# Altium footprint library CP2104.PcbLib: 2 footprints
Each footprint in its own frame and in the unit in brackets; x right, y up, seen from the top. Pads: shape width x height; smd on the part's side, far side on the other; paste and mask are expansions set on the pad; w line width, h text height; cw(c..) or ccw(c..) is an arc to the next point about the centre after c.
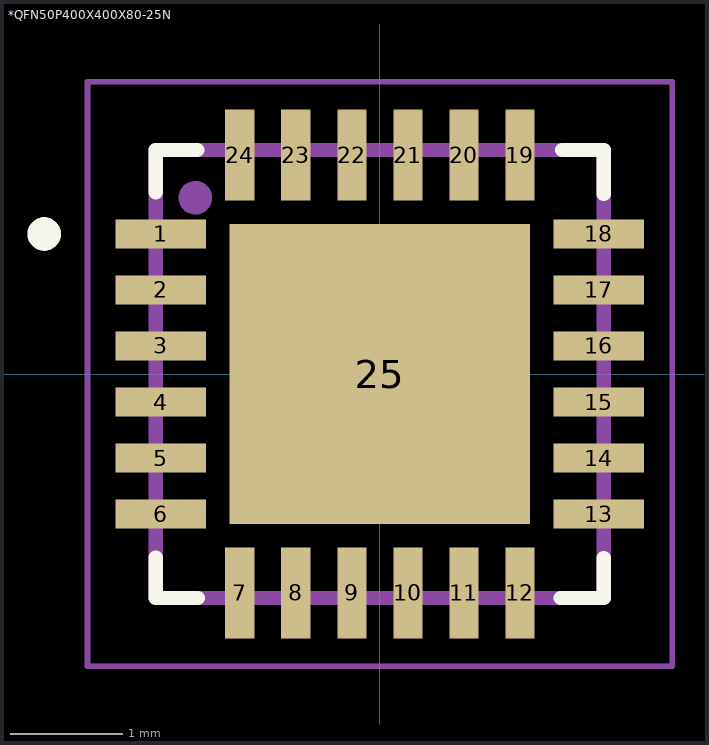
[diagram p0: the footprints below, top view; thin cyan lines are the x and y axes]

## *QFN50P400X400X80-25N [mm]
pads (25):
  rect 0.81x0.26 smd: 1(-1.955,1.25) 2(-1.955,0.75) 3(-1.955,0.25) 4(-1.955,-0.25) 5(-1.955,-0.75) 6(-1.955,-1.25) 13(1.955,-1.25) 14(1.955,-0.75) 15(1.955,-0.25) 16(1.955,0.25) 17(1.955,0.75) 18(1.955,1.25)
  rect 0.26x0.81 smd: 7(-1.25,-1.955) 8(-0.75,-1.955) 9(-0.25,-1.955) 10(0.25,-1.955) 11(0.75,-1.955) 12(1.25,-1.955) 19(1.25,1.955) 20(0.75,1.955) 21(0.25,1.955) 22(-0.25,1.955) 23(-0.75,1.955) 24(-1.25,1.955)
  rect 2.68x2.68 smd: 25(0,0)
Top Overlay:
  circle w0.15: c-2.996,1.25 r0.075
  lines w0.127: -2,-1.639 -2,-2 -1.625,-2 ; -2,1.623 -2,2 -1.63,2 ; 1.612,-2 2,-2 2,-1.643 ; 1.628,2 2,2 2,1.606
Top Paste:
  region: -1.091,1.09 -0.13,1.09 -0.13,0.13 -1.091,0.13
  region: 0.13,1.09 1.09,1.09 1.09,0.13 0.13,0.13
  region: 0.13,-0.13 1.09,-0.13 1.09,-1.09 0.13,-1.09
  region: -1.092,-0.13 -0.13,-0.13 -0.13,-1.092 -1.092,-1.092
Top Solder:
  region: -1.453,1.45 1.45,1.45 1.45,-1.453 -1.453,-1.453
Mechanical 4:
  circle w0.15: c-1.647,1.574 r0.075
  circle w0.15: c-1.647,1.574 r0.075
  lines w0.127: -2,-2 -2,2 ; -2,-2 2,-2 ; -2,-2 -2,2 ; -2,-2 2,-2 ; -2,2 2,2 ; -2,2 2,2 ; 2,-2 2,2 ; 2,-2 2,2
Mechanical 16:
  lines w0.05: -2.61,-2.61 2.61,-2.61 2.61,2.61 -2.61,2.61 -2.61,-2.61
3D body: height 0.25, standoff 0, extent -2,-2 2,2

## PCBComponent_1 [mm]